# Altium footprint library WR-FPC_1.00mm.PcbLib: 115 footprints (part 8 of 8)
Each footprint in its own frame and in the unit in brackets; x right, y up, seen from the top. Pads: shape width x height; smd on the part's side, far side on the other; paste and mask are expansions set on the pad; w line width, h text height; cw(c..) or ccw(c..) is an arc to the next point about the centre after c.
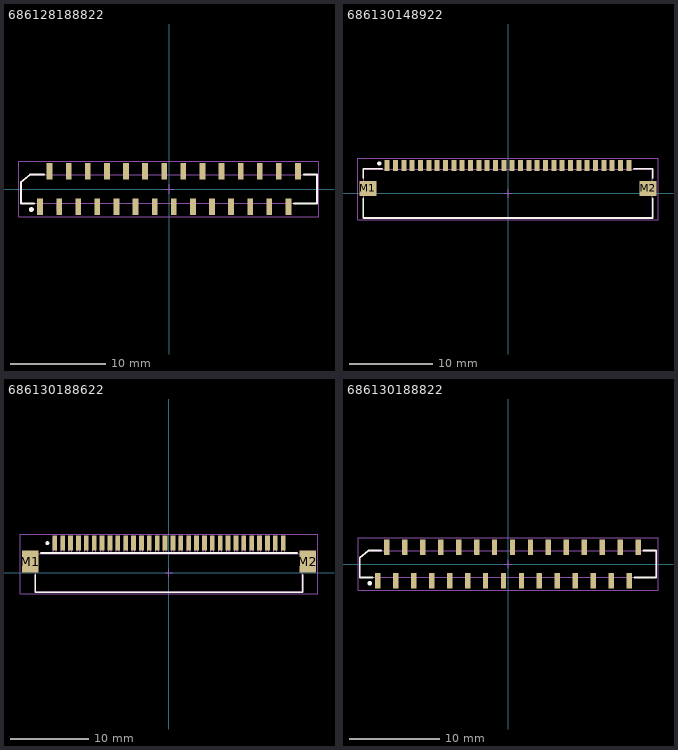
[diagram p7: the footprints below, top view; thin cyan lines are the x and y axes]

## 686128188822 [mm] "LIF Connectors, Vertical Type A,  pitch 1mm, 28p"
height 5.1
pads (28):
  rect 0.6x1.7 smd: 1(-13.5,-1.85) 2(-12.5,1.85) 3(-11.5,-1.85) 4(-10.5,1.85) 5(-9.5,-1.85) 6(-8.5,1.85) 7(-7.5,-1.85) 8(-6.5,1.85) 9(-5.5,-1.85) 10(-4.5,1.85) 11(-3.5,-1.85) 12(-2.5,1.85) 13(-1.5,-1.85) 14(-0.5,1.85) 15(0.5,-1.85) 16(1.5,1.85) 17(2.5,-1.85) 18(3.5,1.85) 19(4.5,-1.85) 20(5.5,1.85) 21(6.5,-1.85) 22(7.5,1.85) 23(8.5,-1.85) 24(9.5,1.85) 25(10.5,-1.85) 26(11.5,1.85) 27(12.5,-1.85) 28(13.5,1.85)
Top Overlay:
  circle w0.25: c-14.4,-2.15 r0.125
  lines w0.2: -14.1,-1.5 -15.5,-1.5 -15.5,0.7 -14.547,1.5 -13.1,1.5 ; 13.1,-1.5 15.5,-1.5 15.5,1.5 14.1,1.5
Top Designator:
  text ".Designator" at -7.498,-0.5 h1.5
Top Component Outline:
  lines w0.1: -13.675,-1.5 -13.675,-2.2 -13.325,-2.2 -13.325,-1.5 ; -12.675,1.5 -12.675,2.2 -12.325,2.2 -12.325,1.5 ; -11.675,-1.5 -11.675,-2.2 -11.325,-2.2 -11.325,-1.5 ; -10.675,1.5 -10.675,2.2 -10.325,2.2 -10.325,1.5 ; -9.675,-1.5 -9.675,-2.2 -9.325,-2.2 -9.325,-1.5 ; -8.675,1.5 -8.675,2.2 -8.325,2.2 -8.325,1.5 ; -7.675,-1.5 -7.675,-2.2 -7.325,-2.2 -7.325,-1.5 ; -6.675,1.5 -6.675,2.2 -6.325,2.2 -6.325,1.5 ; -5.675,-1.5 -5.675,-2.2 -5.325,-2.2 -5.325,-1.5 ; -4.675,1.5 -4.675,2.2 -4.325,2.2 -4.325,1.5 ; -3.675,-1.5 -3.675,-2.2 -3.325,-2.2 -3.325,-1.5 ; -2.675,1.5 -2.675,2.2 -2.325,2.2 -2.325,1.5 ; -1.675,-1.5 -1.675,-2.2 -1.325,-2.2 -1.325,-1.5 ; -0.675,1.5 -0.675,2.2 -0.325,2.2 -0.325,1.5 ; 0.325,-1.5 0.325,-2.2 0.675,-2.2 0.675,-1.5 ; 1.325,1.5 1.325,2.2 1.675,2.2 1.675,1.5 ; 2.325,-1.5 2.325,-2.2 2.675,-2.2 2.675,-1.5 ; 3.325,1.5 3.325,2.2 3.675,2.2 3.675,1.5 ; 4.325,-1.5 4.325,-2.2 4.675,-2.2 4.675,-1.5 ; 5.325,1.5 5.325,2.2 5.675,2.2 5.675,1.5 ; 6.325,-1.5 6.325,-2.2 6.675,-2.2 6.675,-1.5 ; 7.325,1.5 7.325,2.2 7.675,2.2 7.675,1.5 ; 8.325,-1.5 8.325,-2.2 8.675,-2.2 8.675,-1.5 ; 9.325,1.5 9.325,2.2 9.675,2.2 9.675,1.5 ; 10.325,-1.5 10.325,-2.2 10.675,-2.2 10.675,-1.5 ; 11.325,1.5 11.325,2.2 11.675,2.2 11.675,1.5 ; 12.325,-1.5 12.325,-2.2 12.675,-2.2 12.675,-1.5 ; 13.325,1.5 13.325,2.2 13.675,2.2 13.675,1.5 ; -15.5,-1.5 15.5,-1.5 15.5,1.5 -14.547,1.5 -15.5,0.7 -15.5,-1.5
Top 3D Body:
  lines w0.1: -13.675,-1.5 -13.675,-2.2 -13.325,-2.2 -13.325,-1.5 ; -12.675,1.5 -12.675,2.2 -12.325,2.2 -12.325,1.5 ; -11.675,-1.5 -11.675,-2.2 -11.325,-2.2 -11.325,-1.5 ; -10.675,1.5 -10.675,2.2 -10.325,2.2 -10.325,1.5 ; -9.675,-1.5 -9.675,-2.2 -9.325,-2.2 -9.325,-1.5 ; -8.675,1.5 -8.675,2.2 -8.325,2.2 -8.325,1.5 ; -7.675,-1.5 -7.675,-2.2 -7.325,-2.2 -7.325,-1.5 ; -6.675,1.5 -6.675,2.2 -6.325,2.2 -6.325,1.5 ; -5.675,-1.5 -5.675,-2.2 -5.325,-2.2 -5.325,-1.5 ; -4.675,1.5 -4.675,2.2 -4.325,2.2 -4.325,1.5 ; -3.675,-1.5 -3.675,-2.2 -3.325,-2.2 -3.325,-1.5 ; -2.675,1.5 -2.675,2.2 -2.325,2.2 -2.325,1.5 ; -1.675,-1.5 -1.675,-2.2 -1.325,-2.2 -1.325,-1.5 ; -0.675,1.5 -0.675,2.2 -0.325,2.2 -0.325,1.5 ; 0.325,-1.5 0.325,-2.2 0.675,-2.2 0.675,-1.5 ; 1.325,1.5 1.325,2.2 1.675,2.2 1.675,1.5 ; 2.325,-1.5 2.325,-2.2 2.675,-2.2 2.675,-1.5 ; 3.325,1.5 3.325,2.2 3.675,2.2 3.675,1.5 ; 4.325,-1.5 4.325,-2.2 4.675,-2.2 4.675,-1.5 ; 5.325,1.5 5.325,2.2 5.675,2.2 5.675,1.5 ; 6.325,-1.5 6.325,-2.2 6.675,-2.2 6.675,-1.5 ; 7.325,1.5 7.325,2.2 7.675,2.2 7.675,1.5 ; 8.325,-1.5 8.325,-2.2 8.675,-2.2 8.675,-1.5 ; 9.325,1.5 9.325,2.2 9.675,2.2 9.675,1.5 ; 10.325,-1.5 10.325,-2.2 10.675,-2.2 10.675,-1.5 ; 11.325,1.5 11.325,2.2 11.675,2.2 11.675,1.5 ; 12.325,-1.5 12.325,-2.2 12.675,-2.2 12.675,-1.5 ; 13.325,1.5 13.325,2.2 13.675,2.2 13.675,1.5 ; -15.5,-1.5 -15.5,0.7 -14.547,1.5 15.5,1.5 15.5,-1.5 -15.5,-1.5
Top Courtyard:
  lines w0.05: -0.5,0 0.5,0 ; 0,-0.5 0,0.5 ; -15.7,-2.9 15.7,-2.9 15.7,2.9 -15.7,2.9 -15.7,-2.9
3D body "686128188822.stp": height 5.21, standoff 0.01, extent -15.5,-2.2 15.5,2.2

## 686130148922 [mm] "ZIF Connectors, Horizontal, Bottom Contact Hinge Type, pitch 1mm, 30p"
height 2.3
pads (32):
  rect 0.6x1.3 smd: 1(-14.5,3.35) 2(-13.5,3.35) 3(-12.5,3.35) 4(-11.5,3.35) 5(-10.5,3.35) 6(-9.5,3.35) 7(-8.5,3.35) 8(-7.5,3.35) 9(-6.5,3.35) 10(-5.5,3.35) 11(-4.5,3.35) 12(-3.5,3.35) 13(-2.5,3.35) 14(-1.5,3.35) 15(-0.5,3.35) 16(0.5,3.35) 17(1.5,3.35) 18(2.5,3.35) 19(3.5,3.35) 20(4.5,3.35) 21(5.5,3.35) 22(6.5,3.35) 23(7.5,3.35) 24(8.5,3.35) 25(9.5,3.35) 26(10.5,3.35) 27(11.5,3.35) 28(12.5,3.35) 29(13.5,3.35) 30(14.5,3.35)
  rect 2x1.8 smd: M1(-16.8,0.6) M2(16.8,0.6)
Top Overlay:
  circle w0.25: c-15.45,3.6 r0.125
  lines w0.2: -17.375,-0.6 -17.375,-2.95 17.375,-2.95 17.375,-0.6 ; -17.375,1.8 -17.375,2.95 -15.125,2.95 ; 15.125,2.95 17.375,2.95 17.375,1.8
Top Designator:
  text ".Designator" at -7.498,-0.5 h1.5
Top Component Outline:
  lines w0.1: -14.6,2.9 -14.6,3.6 -14.4,3.6 -14.4,2.9 ; -13.6,2.9 -13.6,3.6 -13.4,3.6 -13.4,2.9 ; -12.6,2.9 -12.6,3.6 -12.4,3.6 -12.4,2.9 ; -11.6,2.9 -11.6,3.6 -11.4,3.6 -11.4,2.9 ; -10.6,2.9 -10.6,3.6 -10.4,3.6 -10.4,2.9 ; -9.6,2.9 -9.6,3.6 -9.4,3.6 -9.4,2.9 ; -8.6,2.9 -8.6,3.6 -8.4,3.6 -8.4,2.9 ; -7.6,2.9 -7.6,3.6 -7.4,3.6 -7.4,2.9 ; -6.6,2.9 -6.6,3.6 -6.4,3.6 -6.4,2.9 ; -5.6,2.9 -5.6,3.6 -5.4,3.6 -5.4,2.9 ; -4.6,2.9 -4.6,3.6 -4.4,3.6 -4.4,2.9 ; -3.6,2.9 -3.6,3.6 -3.4,3.6 -3.4,2.9 ; -2.6,2.9 -2.6,3.6 -2.4,3.6 -2.4,2.9 ; -1.6,2.9 -1.6,3.6 -1.4,3.6 -1.4,2.9 ; -0.6,2.9 -0.6,3.6 -0.4,3.6 -0.4,2.9 ; 0.4,2.9 0.4,3.6 0.6,3.6 0.6,2.9 ; 1.4,2.9 1.4,3.6 1.6,3.6 1.6,2.9 ; 2.4,2.9 2.4,3.6 2.6,3.6 2.6,2.9 ; 3.4,2.9 3.4,3.6 3.6,3.6 3.6,2.9 ; 4.4,2.9 4.4,3.6 4.6,3.6 4.6,2.9 ; 5.4,2.9 5.4,3.6 5.6,3.6 5.6,2.9 ; 6.4,2.9 6.4,3.6 6.6,3.6 6.6,2.9 ; 7.4,2.9 7.4,3.6 7.6,3.6 7.6,2.9 ; 8.4,2.9 8.4,3.6 8.6,3.6 8.6,2.9 ; 9.4,2.9 9.4,3.6 9.6,3.6 9.6,2.9 ; 10.4,2.9 10.4,3.6 10.6,3.6 10.6,2.9 ; 11.4,2.9 11.4,3.6 11.6,3.6 11.6,2.9 ; 12.4,2.9 12.4,3.6 12.6,3.6 12.6,2.9 ; 13.4,2.9 13.4,3.6 13.6,3.6 13.6,2.9 ; 14.4,2.9 14.4,3.6 14.6,3.6 14.6,2.9 ; -17.3,-2.9 17.3,-2.9 17.3,2.9 -17.3,2.9 -17.3,-2.9
Top 3D Body:
  lines w0.1: -14.6,2.9 -14.6,3.6 -14.4,3.6 -14.4,2.9 ; -13.6,2.9 -13.6,3.6 -13.4,3.6 -13.4,2.9 ; -12.6,2.9 -12.6,3.6 -12.4,3.6 -12.4,2.9 ; -11.6,2.9 -11.6,3.6 -11.4,3.6 -11.4,2.9 ; -10.6,2.9 -10.6,3.6 -10.4,3.6 -10.4,2.9 ; -9.6,2.9 -9.6,3.6 -9.4,3.6 -9.4,2.9 ; -8.6,2.9 -8.6,3.6 -8.4,3.6 -8.4,2.9 ; -7.6,2.9 -7.6,3.6 -7.4,3.6 -7.4,2.9 ; -6.6,2.9 -6.6,3.6 -6.4,3.6 -6.4,2.9 ; -5.6,2.9 -5.6,3.6 -5.4,3.6 -5.4,2.9 ; -4.6,2.9 -4.6,3.6 -4.4,3.6 -4.4,2.9 ; -3.6,2.9 -3.6,3.6 -3.4,3.6 -3.4,2.9 ; -2.6,2.9 -2.6,3.6 -2.4,3.6 -2.4,2.9 ; -1.6,2.9 -1.6,3.6 -1.4,3.6 -1.4,2.9 ; -0.6,2.9 -0.6,3.6 -0.4,3.6 -0.4,2.9 ; 0.4,2.9 0.4,3.6 0.6,3.6 0.6,2.9 ; 1.4,2.9 1.4,3.6 1.6,3.6 1.6,2.9 ; 2.4,2.9 2.4,3.6 2.6,3.6 2.6,2.9 ; 3.4,2.9 3.4,3.6 3.6,3.6 3.6,2.9 ; 4.4,2.9 4.4,3.6 4.6,3.6 4.6,2.9 ; 5.4,2.9 5.4,3.6 5.6,3.6 5.6,2.9 ; 6.4,2.9 6.4,3.6 6.6,3.6 6.6,2.9 ; 7.4,2.9 7.4,3.6 7.6,3.6 7.6,2.9 ; 8.4,2.9 8.4,3.6 8.6,3.6 8.6,2.9 ; 9.4,2.9 9.4,3.6 9.6,3.6 9.6,2.9 ; 10.4,2.9 10.4,3.6 10.6,3.6 10.6,2.9 ; 11.4,2.9 11.4,3.6 11.6,3.6 11.6,2.9 ; 12.4,2.9 12.4,3.6 12.6,3.6 12.6,2.9 ; 13.4,2.9 13.4,3.6 13.6,3.6 13.6,2.9 ; 14.4,2.9 14.4,3.6 14.6,3.6 14.6,2.9 ; -17.3,-2.9 -17.3,2.9 17.3,2.9 17.3,-2.9 -17.3,-2.9
Top Courtyard:
  lines w0.05: -0.5,0 0.5,0 ; 0,-0.5 0,0.5 ; -18,-3.15 18,-3.15 18,4.2 -18,4.2 -18,-3.15
3D body "686130148922.stp": height 2.27, standoff 0.02, extent -17.3,-2.9 17.3,3.6

## 686130188622 [mm] "LIF Connectors, Horizontal, Top Contact, pitch 1mm, 30p"
height 3.1
pads (32):
  rect 0.6x1.9 smd: 1(-14.5,3.75) 2(-13.5,3.75) 3(-12.5,3.75) 4(-11.5,3.75) 5(-10.5,3.75) 6(-9.5,3.75) 7(-8.5,3.75) 8(-7.5,3.75) 9(-6.5,3.75) 10(-5.5,3.75) 11(-4.5,3.75) 12(-3.5,3.75) 13(-2.5,3.75) 14(-1.5,3.75) 15(-0.5,3.75) 16(0.5,3.75) 17(1.5,3.75) 18(2.5,3.75) 19(3.5,3.75) 20(4.5,3.75) 21(5.5,3.75) 22(6.5,3.75) 23(7.5,3.75) 24(8.5,3.75) 25(9.5,3.75) 26(10.5,3.75) 27(11.5,3.75) 28(12.5,3.75) 29(13.5,3.75) 30(14.5,3.75)
  rect 2.1x2.8 smd: M1(-17.65,1.4) M2(17.65,1.4)
Top Overlay:
  circle w0.25: c-15.45,3.75 r0.125
  lines w0.2: -17,-0.3 -17,-2.5 17,-2.5 17,-0.3 ; -16.3,2.5 16.3,2.5
Top Designator:
  text ".Designator" at -7.498,-0.5 h1.5
Top Component Outline:
  lines w0.1: -14.675,2.4 -14.675,4.4 -14.325,4.4 -14.325,2.4 ; -13.675,2.4 -13.675,4.4 -13.325,4.4 -13.325,2.4 ; -12.675,2.4 -12.675,4.4 -12.325,4.4 -12.325,2.4 ; -11.675,2.4 -11.675,4.4 -11.325,4.4 -11.325,2.4 ; -10.675,2.4 -10.675,4.4 -10.325,4.4 -10.325,2.4 ; -9.675,2.4 -9.675,4.4 -9.325,4.4 -9.325,2.4 ; -8.675,2.4 -8.675,4.4 -8.325,4.4 -8.325,2.4 ; -7.675,2.4 -7.675,4.4 -7.325,4.4 -7.325,2.4 ; -6.675,2.4 -6.675,4.4 -6.325,4.4 -6.325,2.4 ; -5.675,2.4 -5.675,4.4 -5.325,4.4 -5.325,2.4 ; -4.675,2.4 -4.675,4.4 -4.325,4.4 -4.325,2.4 ; -3.675,2.4 -3.675,4.4 -3.325,4.4 -3.325,2.4 ; -2.675,2.4 -2.675,4.4 -2.325,4.4 -2.325,2.4 ; -1.675,2.4 -1.675,4.4 -1.325,4.4 -1.325,2.4 ; -0.675,2.4 -0.675,4.4 -0.325,4.4 -0.325,2.4 ; 0.325,2.4 0.325,4.4 0.675,4.4 0.675,2.4 ; 1.325,2.4 1.325,4.4 1.675,4.4 1.675,2.4 ; 2.325,2.4 2.325,4.4 2.675,4.4 2.675,2.4 ; 3.325,2.4 3.325,4.4 3.675,4.4 3.675,2.4 ; 4.325,2.4 4.325,4.4 4.675,4.4 4.675,2.4 ; 5.325,2.4 5.325,4.4 5.675,4.4 5.675,2.4 ; 6.325,2.4 6.325,4.4 6.675,4.4 6.675,2.4 ; 7.325,2.4 7.325,4.4 7.675,4.4 7.675,2.4 ; 8.325,2.4 8.325,4.4 8.675,4.4 8.675,2.4 ; 9.325,2.4 9.325,4.4 9.675,4.4 9.675,2.4 ; 10.325,2.4 10.325,4.4 10.675,4.4 10.675,2.4 ; 11.325,2.4 11.325,4.4 11.675,4.4 11.675,2.4 ; 12.325,2.4 12.325,4.4 12.675,4.4 12.675,2.4 ; 13.325,2.4 13.325,4.4 13.675,4.4 13.675,2.4 ; 14.325,2.4 14.325,4.4 14.675,4.4 14.675,2.4 ; -18.15,0.4 -18.15,2.4 18.15,2.4 18.15,0.4 16.9,0.4 16.9,-2.4 -16.9,-2.4 -16.9,0.4 -18.15,0.4
Top 3D Body:
  lines w0.1: -14.675,2.4 -14.675,4.4 -14.325,4.4 -14.325,2.4 ; -13.675,2.4 -13.675,4.4 -13.325,4.4 -13.325,2.4 ; -12.675,2.4 -12.675,4.4 -12.325,4.4 -12.325,2.4 ; -11.675,2.4 -11.675,4.4 -11.325,4.4 -11.325,2.4 ; -10.675,2.4 -10.675,4.4 -10.325,4.4 -10.325,2.4 ; -9.675,2.4 -9.675,4.4 -9.325,4.4 -9.325,2.4 ; -8.675,2.4 -8.675,4.4 -8.325,4.4 -8.325,2.4 ; -7.675,2.4 -7.675,4.4 -7.325,4.4 -7.325,2.4 ; -6.675,2.4 -6.675,4.4 -6.325,4.4 -6.325,2.4 ; -5.675,2.4 -5.675,4.4 -5.325,4.4 -5.325,2.4 ; -4.675,2.4 -4.675,4.4 -4.325,4.4 -4.325,2.4 ; -3.675,2.4 -3.675,4.4 -3.325,4.4 -3.325,2.4 ; -2.675,2.4 -2.675,4.4 -2.325,4.4 -2.325,2.4 ; -1.675,2.4 -1.675,4.4 -1.325,4.4 -1.325,2.4 ; -0.675,2.4 -0.675,4.4 -0.325,4.4 -0.325,2.4 ; 0.325,2.4 0.325,4.4 0.675,4.4 0.675,2.4 ; 1.325,2.4 1.325,4.4 1.675,4.4 1.675,2.4 ; 2.325,2.4 2.325,4.4 2.675,4.4 2.675,2.4 ; 3.325,2.4 3.325,4.4 3.675,4.4 3.675,2.4 ; 4.325,2.4 4.325,4.4 4.675,4.4 4.675,2.4 ; 5.325,2.4 5.325,4.4 5.675,4.4 5.675,2.4 ; 6.325,2.4 6.325,4.4 6.675,4.4 6.675,2.4 ; 7.325,2.4 7.325,4.4 7.675,4.4 7.675,2.4 ; 8.325,2.4 8.325,4.4 8.675,4.4 8.675,2.4 ; 9.325,2.4 9.325,4.4 9.675,4.4 9.675,2.4 ; 10.325,2.4 10.325,4.4 10.675,4.4 10.675,2.4 ; 11.325,2.4 11.325,4.4 11.675,4.4 11.675,2.4 ; 12.325,2.4 12.325,4.4 12.675,4.4 12.675,2.4 ; 13.325,2.4 13.325,4.4 13.675,4.4 13.675,2.4 ; 14.325,2.4 14.325,4.4 14.675,4.4 14.675,2.4 ; -18.15,0.4 -16.9,0.4 -16.9,-2.4 16.9,-2.4 16.9,0.4 18.15,0.4 18.15,2.4 -18.15,2.4 -18.15,0.4
Top Courtyard:
  lines w0.05: -0.5,0 0.5,0 ; 0,-0.5 0,0.5 ; -18.9,-2.7 -18.9,4.9 18.9,4.9 18.9,-2.7 -18.9,-2.7
3D body "686130188622.stp": height 3.1, standoff -0.01, extent -18.15,-2.4 18.15,4.4

## 686130188822 [mm] "LIF Connectors, Vertical Type A,  pitch 1mm, 30p"
height 5.1
pads (30):
  rect 0.6x1.7 smd: 1(-14.5,-1.85) 2(-13.5,1.85) 3(-12.5,-1.85) 4(-11.5,1.85) 5(-10.5,-1.85) 6(-9.5,1.85) 7(-8.5,-1.85) 8(-7.5,1.85) 9(-6.5,-1.85) 10(-5.5,1.85) 11(-4.5,-1.85) 12(-3.5,1.85) 13(-2.5,-1.85) 14(-1.5,1.85) 15(-0.5,-1.85) 16(0.5,1.85) 17(1.5,-1.85) 18(2.5,1.85) 19(3.5,-1.85) 20(4.5,1.85) 21(5.5,-1.85) 22(6.5,1.85) 23(7.5,-1.85) 24(8.5,1.85) 25(9.5,-1.85) 26(10.5,1.85) 27(11.5,-1.85) 28(12.5,1.85) 29(13.5,-1.85) 30(14.5,1.85)
Top Overlay:
  circle w0.25: c-15.4,-2.15 r0.125
  lines w0.2: -15.1,-1.5 -16.5,-1.5 -16.5,0.7 -15.547,1.5 -14.1,1.5 ; 14.1,-1.5 16.5,-1.5 16.5,1.5 15.1,1.5
Top Designator:
  text ".Designator" at -7.498,-0.5 h1.5
Top Component Outline:
  lines w0.1: -14.675,-1.5 -14.675,-2.2 -14.325,-2.2 -14.325,-1.5 ; -13.675,1.5 -13.675,2.2 -13.325,2.2 -13.325,1.5 ; -12.675,-1.5 -12.675,-2.2 -12.325,-2.2 -12.325,-1.5 ; -11.675,1.5 -11.675,2.2 -11.325,2.2 -11.325,1.5 ; -10.675,-1.5 -10.675,-2.2 -10.325,-2.2 -10.325,-1.5 ; -9.675,1.5 -9.675,2.2 -9.325,2.2 -9.325,1.5 ; -8.675,-1.5 -8.675,-2.2 -8.325,-2.2 -8.325,-1.5 ; -7.675,1.5 -7.675,2.2 -7.325,2.2 -7.325,1.5 ; -6.675,-1.5 -6.675,-2.2 -6.325,-2.2 -6.325,-1.5 ; -5.675,1.5 -5.675,2.2 -5.325,2.2 -5.325,1.5 ; -4.675,-1.5 -4.675,-2.2 -4.325,-2.2 -4.325,-1.5 ; -3.675,1.5 -3.675,2.2 -3.325,2.2 -3.325,1.5 ; -2.675,-1.5 -2.675,-2.2 -2.325,-2.2 -2.325,-1.5 ; -1.675,1.5 -1.675,2.2 -1.325,2.2 -1.325,1.5 ; -0.675,-1.5 -0.675,-2.2 -0.325,-2.2 -0.325,-1.5 ; 0.325,1.5 0.325,2.2 0.675,2.2 0.675,1.5 ; 1.325,-1.5 1.325,-2.2 1.675,-2.2 1.675,-1.5 ; 2.325,1.5 2.325,2.2 2.675,2.2 2.675,1.5 ; 3.325,-1.5 3.325,-2.2 3.675,-2.2 3.675,-1.5 ; 4.325,1.5 4.325,2.2 4.675,2.2 4.675,1.5 ; 5.325,-1.5 5.325,-2.2 5.675,-2.2 5.675,-1.5 ; 6.325,1.5 6.325,2.2 6.675,2.2 6.675,1.5 ; 7.325,-1.5 7.325,-2.2 7.675,-2.2 7.675,-1.5 ; 8.325,1.5 8.325,2.2 8.675,2.2 8.675,1.5 ; 9.325,-1.5 9.325,-2.2 9.675,-2.2 9.675,-1.5 ; 10.325,1.5 10.325,2.2 10.675,2.2 10.675,1.5 ; 11.325,-1.5 11.325,-2.2 11.675,-2.2 11.675,-1.5 ; 12.325,1.5 12.325,2.2 12.675,2.2 12.675,1.5 ; 13.325,-1.5 13.325,-2.2 13.675,-2.2 13.675,-1.5 ; 14.325,1.5 14.325,2.2 14.675,2.2 14.675,1.5 ; -16.5,-1.5 16.5,-1.5 16.5,1.5 -15.547,1.5 -16.5,0.7 -16.5,-1.5
Top 3D Body:
  lines w0.1: -14.675,-1.5 -14.675,-2.2 -14.325,-2.2 -14.325,-1.5 ; -13.675,1.5 -13.675,2.2 -13.325,2.2 -13.325,1.5 ; -12.675,-1.5 -12.675,-2.2 -12.325,-2.2 -12.325,-1.5 ; -11.675,1.5 -11.675,2.2 -11.325,2.2 -11.325,1.5 ; -10.675,-1.5 -10.675,-2.2 -10.325,-2.2 -10.325,-1.5 ; -9.675,1.5 -9.675,2.2 -9.325,2.2 -9.325,1.5 ; -8.675,-1.5 -8.675,-2.2 -8.325,-2.2 -8.325,-1.5 ; -7.675,1.5 -7.675,2.2 -7.325,2.2 -7.325,1.5 ; -6.675,-1.5 -6.675,-2.2 -6.325,-2.2 -6.325,-1.5 ; -5.675,1.5 -5.675,2.2 -5.325,2.2 -5.325,1.5 ; -4.675,-1.5 -4.675,-2.2 -4.325,-2.2 -4.325,-1.5 ; -3.675,1.5 -3.675,2.2 -3.325,2.2 -3.325,1.5 ; -2.675,-1.5 -2.675,-2.2 -2.325,-2.2 -2.325,-1.5 ; -1.675,1.5 -1.675,2.2 -1.325,2.2 -1.325,1.5 ; -0.675,-1.5 -0.675,-2.2 -0.325,-2.2 -0.325,-1.5 ; 0.325,1.5 0.325,2.2 0.675,2.2 0.675,1.5 ; 1.325,-1.5 1.325,-2.2 1.675,-2.2 1.675,-1.5 ; 2.325,1.5 2.325,2.2 2.675,2.2 2.675,1.5 ; 3.325,-1.5 3.325,-2.2 3.675,-2.2 3.675,-1.5 ; 4.325,1.5 4.325,2.2 4.675,2.2 4.675,1.5 ; 5.325,-1.5 5.325,-2.2 5.675,-2.2 5.675,-1.5 ; 6.325,1.5 6.325,2.2 6.675,2.2 6.675,1.5 ; 7.325,-1.5 7.325,-2.2 7.675,-2.2 7.675,-1.5 ; 8.325,1.5 8.325,2.2 8.675,2.2 8.675,1.5 ; 9.325,-1.5 9.325,-2.2 9.675,-2.2 9.675,-1.5 ; 10.325,1.5 10.325,2.2 10.675,2.2 10.675,1.5 ; 11.325,-1.5 11.325,-2.2 11.675,-2.2 11.675,-1.5 ; 12.325,1.5 12.325,2.2 12.675,2.2 12.675,1.5 ; 13.325,-1.5 13.325,-2.2 13.675,-2.2 13.675,-1.5 ; 14.325,1.5 14.325,2.2 14.675,2.2 14.675,1.5 ; -16.5,-1.5 -16.5,0.7 -15.547,1.5 16.5,1.5 16.5,-1.5 -16.5,-1.5
Top Courtyard:
  lines w0.05: -0.5,0 0.5,0 ; 0,-0.5 0,0.5 ; -16.7,-2.9 16.7,-2.9 16.7,2.9 -16.7,2.9 -16.7,-2.9
3D body "686130188822.stp": height 5.21, standoff 0.01, extent -16.5,-2.2 16.5,2.2